# Altium schematic symbol library C3216X7R1V106K160AC.SchLib: 1 symbol
Pins are listed as number, name and electrical type; pins without a type are passive.

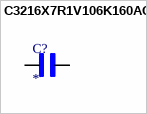
[diagram p0: symbol C3216X7R1V106K160AC]

## C3216X7R1V106K160AC
designator C?
10 ÂµF Â±10% 35V Ceramic Capacitor X7R 1206 (3216 Metric); MF: {'manufacturer': u'TDK Corporation'}; MP: C3216X7R1V106K160AC; Package: None; Price: None; Value: *; Availability: Unavailable
footprint CAPC3216X180N
pins: 1, 2